# Altium schematic symbol library 691 244 800 0xx.SchLib: 2 symbols
Pins are listed as number, name and electrical type; pins without a type are passive.

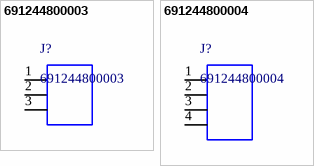
[diagram p0: symbols 691244800003 to 691244800004]

## 691244800003
designator J?
WR-TBL Vertical Cable Entry With Rising Cage Clamp,Serie 2448 - 10.00 mm; Manufacturer: Wurth Elektronik; ComponentLink1 Description: Manufacturer; ComponentLink2 Description: Datasheet; ComponentLink1URL: http://www.we-online.de; ComponentLink2URL: http://katalog.we-online.de/em/datasheet/6912448000xx.pdf; Created by: Baojun Chen; Created Date: 15.Sep.2015; partNo: 691244800003
footprint 691244800003 (Serie 2448 - 10.00 mm _ 3 pins)
pins: 1, 2, 3

## 691244800004
designator J?
WR-TBL Vertical Cable Entry With Rising Cage Clamp,Serie 2448 - 10.00 mm; Manufacturer: Wurth Elektronik; ComponentLink1 Description: Manufacturer; ComponentLink2 Description: Datasheet; ComponentLink1URL: http://www.we-online.de; ComponentLink2URL: http://katalog.we-online.de/em/datasheet/6912448000xx.pdf; Created by: Baojun Chen; Created Date: 15.Sep.2015; partNo: 691244800004
footprint 691244800004 (Serie 2448 - 10.00 mm _ 4 pins)
pins: 1, 2, 3, 4